# Altium schematic symbol library BQ24600.SchLib: 1 symbol
Pins are listed as number, name and electrical type; pins without a type are passive.

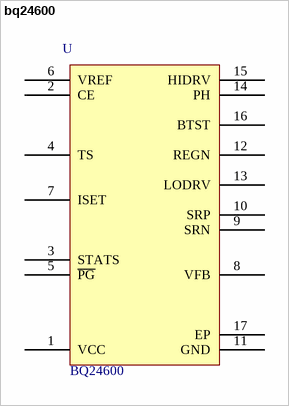
[diagram p0: symbol bq24600]

## bq24600
designator U  value BQ24600  (hidden comment: *)
footprint VQFN16 (Footprint not found)
pins: 1 VCC (power), 2 CE (power), 3 STATS (power), 4 TS (power), 5 ~{PG} (power), 6 VREF (power), 7 ISET (power), 8 VFB (power), 9 SRN (power), 10 SRP (power), 11 GND (power), 12 REGN (power), 13 LODRV (power), 14 PH (power), 15 HIDRV (power), 16 BTST (power), 17 EP (power)